# EAGLE library part LMP8602 (library FiveVolt)
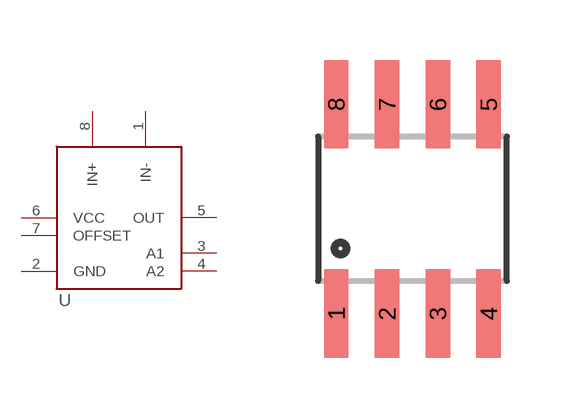
[diagram p5: symbol with the pads of SOIC-8; footprint SOIC-8]

Designator prefix -

## LMP8602  [SOIC-8]
1  IN-
2  GND
3  A1
4  A2
5  OUT
6  VCC
7  OFFSET
8  IN+

## Footprint SOIC-8 (pad centres in mm)
smd 0.61 x 2.21: 1 -1.905,-2.616; 2 -0.635,-2.616; 3 0.635,-2.616; 4 1.905,-2.616; 5 1.905,2.616; 6 0.635,2.616; 7 -0.635,2.616; 8 -1.905,2.616